# Altium footprint library sitiboard3.PcbLib: 29 footprints (part 1 of 2)
Each footprint in its own frame and in the unit in brackets; x right, y up, seen from the top. Pads: shape width x height; smd on the part's side, far side on the other; paste and mask are expansions set on the pad; w line width, h text height; cw(c..) or ccw(c..) is an arc to the next point about the centre after c.
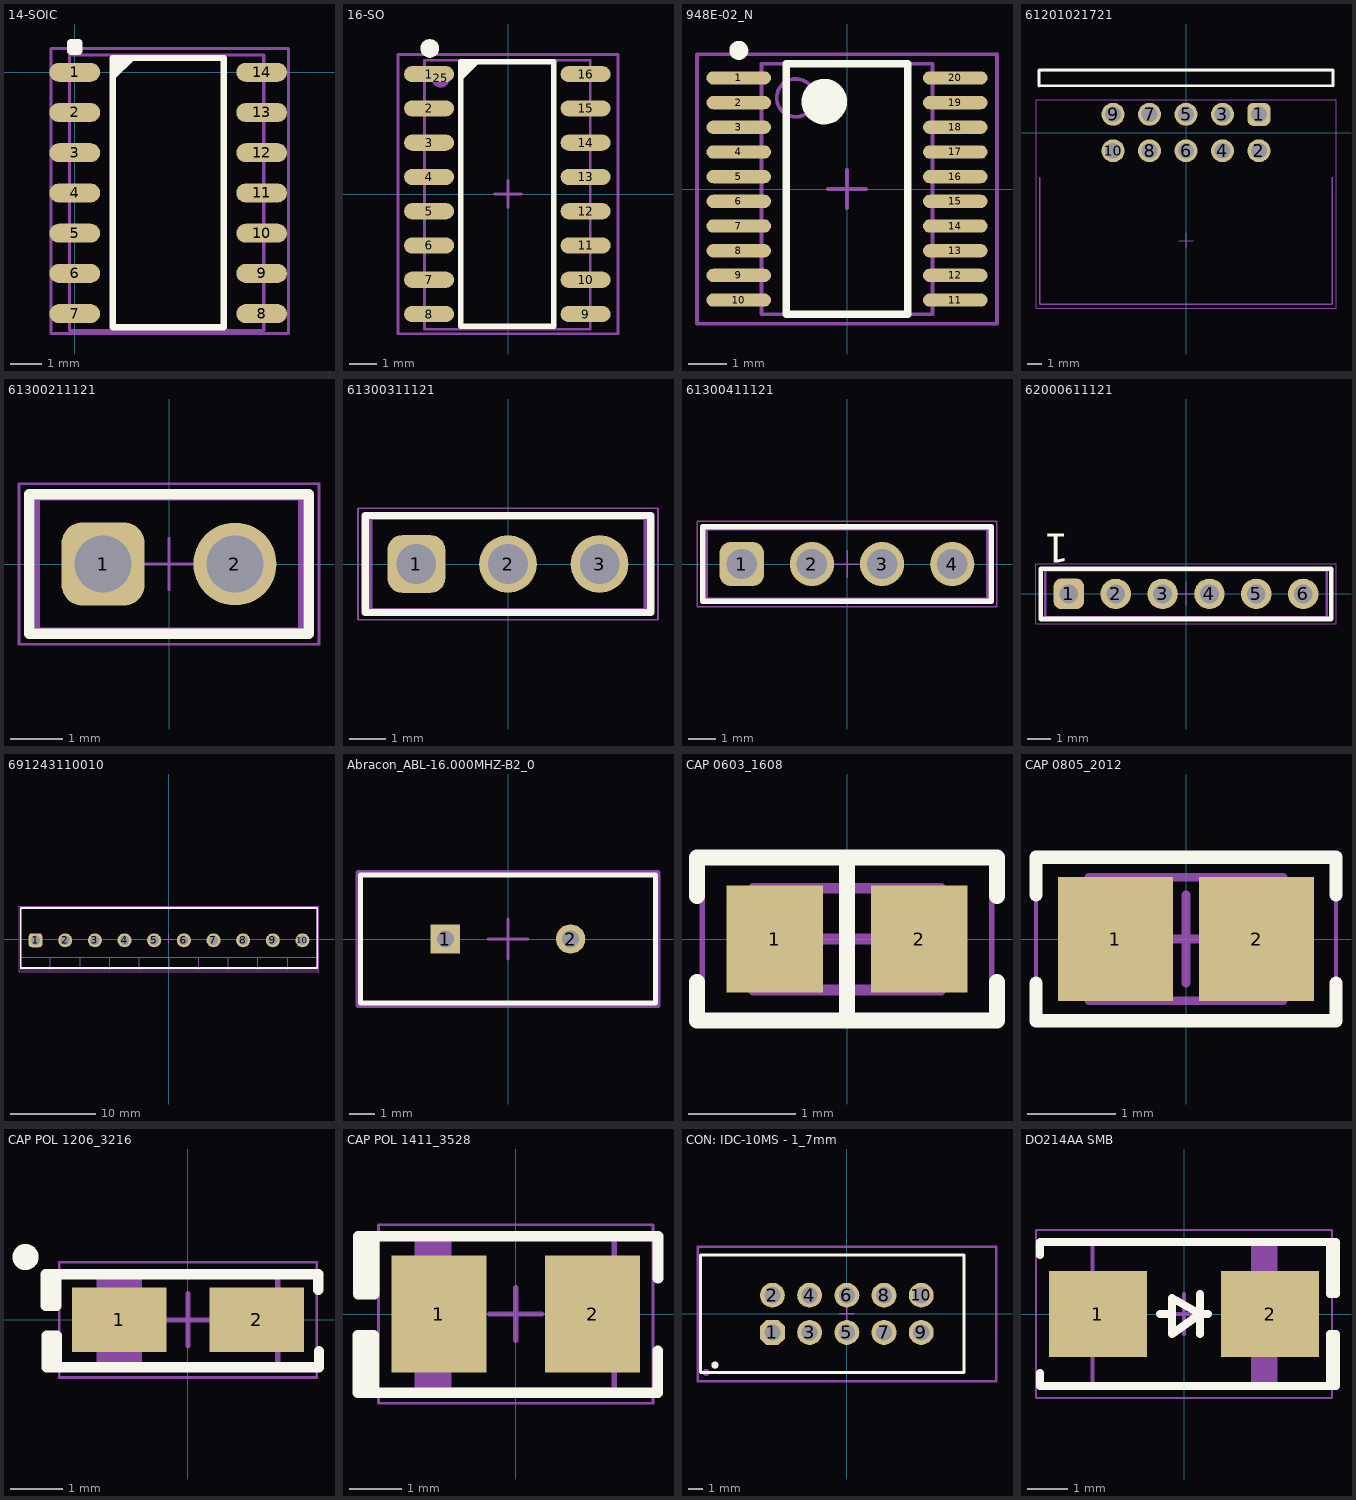
[diagram p0: the footprints below, top view; thin cyan lines are the x and y axes]

## 14-SOIC [mm]
pads (16):
  rrect100% 1.6x0.6 smd: 1(0,0) 2(0,-1.27) 3(0,-2.54) 4(0,-3.81) 5(0,-5.08) 6(0,-6.35) 7(0,-7.62) 8(5.9,-7.62) 9(5.9,-6.35) 10(5.9,-5.08) 11(5.9,-3.81) 12(5.9,-2.54) 13(5.9,-1.27) 14(5.9,0)
  rrect50% 0.5x0.5 on Top Overlay: ""(0,0.8)
  round 0.5 on Mech1: ""(0.5,0)
Top Overlay:
  region: 1.2,0.45 1.2,-0.27 1.92,0.45
  lines w0.2: 1.2,-8.05 1.2,0.45 4.7,0.45 4.7,-8.05 1.2,-8.05
Mechanical 1:
  lines w0.1: -0.168,-8.15 5.969,-8.15 5.969,0.55 -0.168,0.55 -0.168,-8.15
Mechanical 15:
  lines w0.1: -0.75,-8.25 6.75,-8.25 6.75,0.5 6.75,0.75 -0.75,0.75 -0.75,-8.25
3D body "User Library-so14-2.STEP": height 1.78, standoff 0.01, extent -0.118,-8.15 6.019,0.55

## 16-SO [mm]
pads (18):
  oval 1.85x0.6 smd: 1(-2.925,4.448) 2(-2.925,3.178) 3(-2.925,1.908) 4(-2.925,0.638) 5(-2.925,-0.632) 6(-2.925,-1.902) 7(-2.925,-3.172) 8(-2.925,-4.442) 9(2.875,-4.442) 10(2.875,-3.172) 11(2.875,-1.902) 12(2.875,-0.632) 13(2.875,0.638) 14(2.875,1.908) 15(2.875,3.178) 16(2.875,4.448)
  round 0.7 on Mech1: 25(-2.5,4.3)
  round 0.7 on Top Overlay: ""(-2.9,5.4)
Top Overlay:
  region: -1.75,4.9 -1.75,4.18 -1.03,4.9
  lines w0.2: -1.75,-4.9 -1.75,4.9 1.7,4.9 1.7,-4.9 -1.75,-4.9
Mechanical 1:
  lines w0.1: -3.093,-5.01 -3.093,4.96 3.044,4.96 3.044,-5.01 -3.093,-5.01
Mechanical 15:
  lines w0.1: -0.499,0.003 0.501,0.003 ; 0.001,-0.497 0.001,0.503 ; -4.075,-5.175 -4.075,5.175 4.075,5.175 4.075,-5.175 -4.075,-5.175
3D body "User Library-so16-1.STEP": height 1.73, standoff -0.04, extent -3.093,-5.01 3.044,4.96

## 948E-02_N [mm] "TSOP, 20-Leads, Body 6.5x4.4mm, Pitch 0.65mm, IPC Medium Density"
height 1.2
pads (20):
  oval 1.7x0.35 smd: 1(-2.85,2.925) 2(-2.85,2.275) 3(-2.85,1.625) 4(-2.85,0.975) 5(-2.85,0.325) 6(-2.85,-0.325) 7(-2.85,-0.975) 8(-2.85,-1.625) 9(-2.85,-2.275) 10(-2.85,-2.925) 11(2.85,-2.925) 12(2.85,-2.275) 13(2.85,-1.625) 14(2.85,-0.975) 15(2.85,-0.325) 16(2.85,0.325) 17(2.85,0.975) 18(2.85,1.625) 19(2.85,2.275) 20(2.85,2.925)
Top Overlay:
  circle w0.6: c-0.6,2.3 r0.3
  circle w0.25: c-2.85,3.65 r0.125
  lines w0.2: -1.6,-3.3 1.6,-3.3 1.6,3.3 -1.6,3.3 -1.6,-3.3
Mechanical 13:
  circle w0.1: c-1.35,2.4 r0.5
  lines w0.1: -2.25,-3.3 2.25,-3.3 2.25,3.3 -2.25,3.3 -2.25,-3.3
Mechanical 15:
  lines w0.1: -0.5,0 0.5,0 ; 0,-0.5 0,0.5 ; -3.95,-3.55 3.95,-3.55 3.95,3.55 -3.95,3.55 -3.95,-3.55
3D body: height 1.2, standoff 0, extent -2.25,-3.3 2.25,3.3

## 61201021721 [mm] "10 pins, right angled, gold plating"
height 9.1
pads (10):
  rrect50% 1.6x1.6 hole 1.1: 1(5.08,1.27)
  round 1.6 hole 1.1: 2(5.08,-1.27) 3(2.54,1.27) 4(2.54,-1.27) 5(0,1.27) 6(0,-1.27) 7(-2.54,1.27) 8(-2.54,-1.27) 9(-5.08,1.27) 10(-5.08,-1.27)
Top Overlay:
  lines w0.2: -10.255,3.245 -10.255,4.365 10.255,4.365 10.255,3.265 5.128,3.265 -5.128,3.265 -10.235,3.265 -10.255,3.245
Top 3D Body:
  lines w0.1: -10.18,-3.11 -10.18,-11.96 10.18,-11.96 10.18,-3.11 ; -10.18,4.29 10.18,4.29
Top Component Outline:
  lines w0.1: -10.18,-3.11 -10.18,-11.96 10.18,-11.96 10.18,-3.11 ; -10.18,4.29 10.18,4.29
Top Courtyard:
  lines w0.05: -10.455,2.27 -10.455,-12.235 10.455,-12.235 10.455,2.27 ; -10.439,2.286 10.439,2.286 ; -0.5,-7.535 0.5,-7.535 ; 0,-8.035 0,-7.035
Top Designator:
  text ".Designator" at -7.498,-8.035 h1.5
3D body "61201021721.stp": height 9.23, standoff -2.88, extent -10.18,-11.96 10.18,1.59

## 61300211121 [mm] "Pin Header, pitch 2.54 mm, THT, Vertical, single row, 2p"
height 8.54
pads (2):
  rrect50% 1.6x1.6 hole 1.1: 1(-1.27,0)
  round 1.6 hole 1.1: 2(1.27,0)
Top Overlay:
  lines w0.2: -2.69,-1.345 -2.69,1.345 2.69,1.345 2.69,-1.345 -2.69,-1.345
Top 3D Body:
  lines w0.1: -2.54,-1.27 2.54,-1.27 2.54,1.27 -2.54,1.27 -2.54,-1.27
Top Assembly:
  lines w0.1: -2.54,-1.27 2.54,-1.27 2.54,1.27 -2.54,1.27 -2.54,-1.27
  text ".Designator" at -2.423,-0.467 h1.25
Top Courtyard:
  lines w0.05: -0.5,0 0.5,0 ; 0,-0.5 0,0.5 ; -2.89,-1.545 -2.89,1.545 2.89,1.545 2.89,-1.545 -2.89,-1.545
3D body "61300211121.stp": height 8.57, standoff -2.97, extent -2.54,-1.27 2.54,1.27

## 61300311121 [mm] "Pin Header, pitch 2.54 mm, THT, Vertical, single row, 3p"
height 8.54
pads (3):
  rrect50% 1.6x1.6 hole 1.1: 1(-2.54,0)
  round 1.6 hole 1.1: 2(0,0) 3(2.54,0)
Top Overlay:
  lines w0.2: -3.96,-1.345 -3.96,1.345 3.96,1.345 3.96,-1.345 -3.96,-1.345
Top 3D Body:
  lines w0.1: -3.81,-1.27 3.81,-1.27 3.81,1.27 -3.81,1.27 -3.81,-1.27
Top Assembly:
  lines w0.1: -3.81,-1.27 3.81,-1.27 3.81,1.27 -3.81,1.27 -3.81,-1.27
  text ".Designator" at -6.248,-0.417 h1.25
Top Courtyard:
  lines w0.05: -0.5,0 0.5,0 ; 0,-0.5 0,0.5 ; -4.16,-1.545 -4.16,1.545 4.16,1.545 4.16,-1.545 -4.16,-1.545
3D body "61300311121.stp": height 8.57, standoff -2.97, extent -3.81,-1.27 3.81,1.27

## 61300411121 [mm] "Pin Header, pitch 2.54 mm, THT, Vertical, single row, 4p"
height 8.54
pads (4):
  rrect50% 1.6x1.6 hole 1.1: 1(-3.81,0)
  round 1.6 hole 1.1: 2(-1.27,0) 3(1.27,0) 4(3.81,0)
Top Overlay:
  lines w0.2: -5.23,-1.345 -5.23,1.345 5.23,1.345 5.23,-1.345 -5.23,-1.345
Top 3D Body:
  lines w0.1: -5.08,-1.27 5.08,-1.27 5.08,1.27 -5.08,1.27 -5.08,-1.27
Top Assembly:
  lines w0.1: -5.08,-1.27 5.08,-1.27 5.08,1.27 -5.08,1.27 -5.08,-1.27
  text ".Designator" at -7.498,-0.5 h1.5
Top Courtyard:
  lines w0.05: -0.5,0 0.5,0 ; 0,-0.5 0,0.5 ; -5.43,-1.545 5.43,-1.545 5.43,1.545 -5.43,1.545 -5.43,-1.545
3D body "61300411121.stp": height 8.57, standoff -2.97, extent -5.08,-1.27 5.08,1.27

## 62000611121 [mm] "Pin Header, pitch 2.00 mm, THT, Vertical, single row, 6p"
height 6.35
pads (6):
  rrect50% 1.3x1.3 hole 0.8: 1(-5,0)
  round 1.3 hole 0.8: 2(-3,0) 3(-1,0) 4(1,0) 5(3,0) 6(5,0)
Top Overlay:
  lines w0.2: -6.2,-1.075 -6.2,1.075 6.2,1.075 6.2,-1.075 -6.2,-1.075
  text "1" at -4.975,2.575 h1.25
Top 3D Body:
  lines w0.1: -6,-1 -6,1 6,1 6,-1 -6,-1
Top Assembly:
  lines w0.1: -6,-1 -6,1 6,1 6,-1 -6,-1
  text ".Designator" at -2.598,1.533 h1.25
Top Courtyard:
  lines w0.05: -0.5,0 0.5,0 ; 0,-0.5 0,0.5 ; -6.4,-1.275 6.4,-1.275 6.4,1.275 -6.4,1.275 -6.4,-1.275
3D body "62000611121.stp": height 6.05, standoff -2.65, extent -6,-1 6,1

## 691243110010 [mm] "Serie 2431 - 3.50 mm_10 pins"
height 9.1
pads (10):
  rrect50% 1.65x1.65 hole 1.1: 1(-15.75,-0.15)
  round 1.65 hole 1.1: 2(-12.25,-0.15) 3(-8.75,-0.15) 4(-5.25,-0.15) 5(-1.75,-0.15) 6(1.75,-0.15) 7(5.25,-0.15) 8(8.75,-0.15) 9(12.25,-0.15) 10(15.75,-0.15)
Top Overlay:
  lines w0.2: -17.5,-3.429 17.5,-3.429 17.5,3.65 -17.5,3.65 -17.5,-3.429
Mechanical 11:
  lines w0.1: -17.5,-2.15 17.5,-2.15 ; -14,-3.65 -14,-2.15 ; -10.5,-3.65 -10.5,-2.15 ; -7,-3.65 -7,-2.15 ; -3.5,-3.65 -3.5,-2.15 ; 0,-3.65 0,-2.15 ; 3.5,-3.65 3.5,-2.15 ; 7,-3.65 7,-2.15 ; 10.5,-3.65 10.5,-2.15 ; 14,-3.65 14,-2.15 ; -17.5,-3.65 -17.5,3.65 17.5,3.65 17.5,-3.65 -17.5,-3.65
  text ".Designator" at -1.75,-0.75 h1.25
Mechanical 13:
  lines w0.1: -17.5,-2.15 17.5,-2.15 ; -14,-3.65 -14,-2.15 ; -10.5,-3.65 -10.5,-2.15 ; -7,-3.65 -7,-2.15 ; -3.5,-3.65 -3.5,-2.15 ; 0,-3.65 0,-2.15 ; 3.5,-3.65 3.5,-2.15 ; 7,-3.65 7,-2.15 ; 10.5,-3.65 10.5,-2.15 ; 14,-3.65 14,-2.15 ; -17.5,-3.65 17.5,-3.65 17.5,3.65 -17.5,3.65 -17.5,-3.65
Mechanical 15:
  lines w0.05: -0.5,0 0.5,0 ; 0,-0.5 0,0.5 ; -17.7,-3.85 17.7,-3.85 17.7,3.85 -17.7,3.85 -17.7,-3.85
3D body "691243110010.stp": height 9.15, standoff -3.45, extent -17.5,-3.65 17.5,3.65

## Abracon_ABL-16.000MHZ-B2_0 [mm]
pads (2):
  rect 1.15x1.15 hole 0.65 paste-1000 mask+0: 1(-2.44,0)
  round 1.15 hole 0.65 paste-1000 mask+0: 2(2.44,0)
Top Overlay:
  lines w0.2: -5.75,-2.5 -5.75,2.5 5.75,2.5 5.75,-2.5 -5.75,-2.5
Mechanical 10:
  lines w0.2: -5.85,-2.6 -5.85,2.6 5.85,2.6 5.85,-2.6 -5.85,-2.6
  text ".Designator" at 0,0 h1.25
Bottom Assembly:
  lines w0.15: -5.75,-2.5 -5.75,2.5 5.75,2.5 5.75,-2.5 -5.75,-2.5
Mechanical 15:
  lines w0.1: -0.78,0 0.78,0 ; 0,-0.78 0,0.78
  lines w0.2: -5.85,-2.6 -5.85,2.6 5.85,2.6 5.85,-2.6 -5.85,-2.6
3D body "3dmodel.step": height 0.25, standoff 0, extent -5.85,-2.6 5.85,2.6

## CAP 0603_1608 [mm] "Chip Capacitor, 2-Leads, Body 1.60x0.80mm, IPC Medium Density"
height 0.89
pads (2):
  rect 0.9x1 smd: 1(-0.675,0) 2(0.675,0)
Top Overlay:
  lines w0.15: -1.4,-0.4 -1.4,-0.762 1.4,-0.762 1.4,-0.4 ; -1.4,0.4 -1.4,0.762 1.4,0.762 1.4,0.4 ; 0,-0.7 0,0.7
Mechanical 13:
  lines w0.1: -0.875,-0.475 -0.875,0.475 0.875,0.475 0.875,-0.475 -0.875,-0.475
Mechanical 15:
  lines w0.05: -1.35,-0.75 -1.35,0.75 1.35,0.75 1.35,-0.75 -1.35,-0.75
  lines w0.1: -0.475,0 0.475,0 ; 0,-0.475 0,0.475
3D body "0603 cap.STEP": height 0.82, standoff 0, extent -0.8,-0.412 0.8,0.412

## CAP 0805_2012 [mm] "Chip Capacitor, 2-Leads, Body 2.00x1.20mm, IPC Medium Density"
height 1.15
pads (2):
  rect 1.3x1.4 smd: 1(-0.8,0) 2(0.8,0)
Top Overlay:
  lines w0.15: -1.7,-0.925 1.7,-0.925 ; -1.7,-0.9 -1.7,-0.5 ; -1.7,0.5 -1.7,0.9 ; -1.7,0.925 1.7,0.925 ; 1.7,-0.9 1.7,-0.5 ; 1.7,0.5 1.7,0.9
Mechanical 13:
  lines w0.1: -1.1,-0.7 -1.1,0.7 1.1,0.7 1.1,-0.7 -1.1,-0.7
Mechanical 15:
  lines w0.05: -1.7,-0.95 -1.7,0.95 1.7,0.95 1.7,-0.95 -1.7,-0.95
  lines w0.1: -0.5,0 0.5,0 ; 0,-0.5 0,0.5
3D body "0805 cap.STEP": height 1.26, standoff -0.02, extent -1,-0.637 1,0.637

## CAP POL 1206_3216 [mm] "Molded Capacitor, 2-Leads, Body 3.20x1.6mm, IPC Medium Density"
height 1.7
pads (2):
  rect 1.8x1.23 smd: 1(-1.31,0) 2(1.31,0)
Top Overlay:
  circle w0.25: c-3.1,1.2 r0.125
  rectangle: -2.717,0.273 -2.567,0.873
  rectangle: -2.7,-0.9 -2.55,-0.3
  lines w0.2: -2.517,0.873 -2.517,0.273 -2.717,0.273 -2.717,0.873 2.483,0.873 2.483,0.573 ; -2.5,-0.9 -2.5,-0.3 -2.7,-0.3 -2.7,-0.9 2.5,-0.9 2.5,-0.6
Mechanical 13:
  rectangle: -1.714,-0.849 -0.874,0.851
  lines w0.1: -1.7,-0.85 -1.7,0.85 1.715,0.85 1.715,-0.85 -1.7,-0.85
Mechanical 15:
  lines w0.05: -2.46,-1.1 2.46,-1.1 2.46,1.1 -2.46,1.1 -2.46,-1.1
  lines w0.1: -0.5,0 0.5,0 ; 0,-0.5 0,0.5
3D body "CAP TANT - 1206 - 1.7MM.step": height 1.7, standoff 0, extent -1.715,-0.85 1.715,0.85

## CAP POL 1411_3528 [mm] "Molded Capacitor, 2-Leads, Body 3.50x2.80mm, IPC Medium Density"
height 2
pads (2):
  rect 1.8x2.23 smd: 1(-1.46,0) 2(1.46,0)
Top Overlay:
  region: -3,-0.4 -3,-1.5 -2.7,-1.5 -2.7,-0.4
  region: -2.995,0.38 -2.995,1.48 -2.695,1.48 -2.695,0.38
  lines w0.2: 2.7,-0.7 2.7,-1.5 -2.7,-1.5 ; 2.705,0.68 2.705,1.48 -2.695,1.48 ; -2.7,-1.5 -2.7,-0.4 -3,-0.4 -3,-1.5 -2.7,-1.5 ; -2.695,1.48 -2.695,0.38 -2.995,0.38 -2.995,1.48 -2.695,1.48
Mechanical 13:
  rectangle: -1.875,-1.45 -1.225,1.45
  lines w0.1: -1.875,-1.45 1.875,-1.45 1.875,1.45 -1.875,1.45 -1.875,-1.45
Mechanical 15:
  lines w0.05: -2.61,-1.7 2.61,-1.7 2.61,1.7 -2.61,1.7 -2.61,-1.7
  lines w0.1: -0.5,0 0.5,0 ; 0,-0.5 0,0.5
3D body "CAP TANT - 1411 - 2.0MM.step": height 2, standoff 0, extent -1.865,-1.45 1.865,1.45

## CON: IDC-10MS - 1_7mm [mm]
pads (12):
  oct 1.7x1.7 hole 1.1: 1(-5.08,-1.27)
  round 1.7 hole 1.1: 2(-5.08,1.27) 3(-2.54,-1.27) 4(-2.54,1.27) 5(0,-1.27) 6(0,1.27) 7(2.54,-1.27) 8(2.54,1.27) 9(5.08,-1.27) 10(5.08,1.27)
  round 0.5 on Mech1: ""(-9.6,-4)
  round 0.5 on Top Overlay: ""(-9,-3.5)
Top Overlay:
  lines w0.2: -10,-4 8,-4 8,-2 8,2 8,4 -10,4 -10,-4
Mechanical 1:
  lines w0.1: -10.14,-4.572 10.16,-4.572 10.16,4.528 -10.14,4.528 -10.14,-4.572
Mechanical 15:
  lines w0.1: -0.5,0 0.5,0 ; 0,-0.5 0,0.5 ; -10.225,-4.65 10.25,-4.65 10.25,4.625 -10.225,4.625 -10.225,-4.65
3D body "IDC-10MS.STEP": height 9, standoff -3.1, extent -10.14,-4.572 10.16,4.528

## DO214AA SMB [mm]
pads (2):
  rect 2.45x2.15 smd: 1(-2.15,0) 2(2.15,0)
Top Overlay:
  lines w0.2: -3.6,-1.475 -3.6,-1.8 3.8,-1.8 3.8,-0.5 3.65,-0.5 3.65,-1.8 ; -3.6,1.475 -3.6,1.8 3.8,1.8 3.8,0.5 3.65,0.5 3.65,1.8 ; -0.6,0 -0.3,0 ; 0.4,-0.5 0.4,0.5 ; 0.6,0 0.4,0 ; 0.4,0 -0.3,-0.5 -0.3,0.4 0.4,0
Mechanical 13:
  rectangle: 1.67,-1.8 2.285,1.8
  lines w0.1: -2.285,-1.8 -2.285,1.8 2.285,1.8 2.285,-1.8 -2.285,-1.8
Mechanical 15:
  lines w0.05: -3.7,-2.1 -3.7,2.1 3.7,2.1 3.7,-2.1 -3.7,-2.1
  lines w0.1: -0.5,0 0.5,0 ; 0,-0.5 0,0.5
3D body "SMB.STEP": height 2.4, standoff 0, extent -2.6,-1.799 2.6,1.8